# Altium integrated library harwin.IntLib: 8 symbols
Pins are listed as number, name and electrical type; pins without a type are passive.

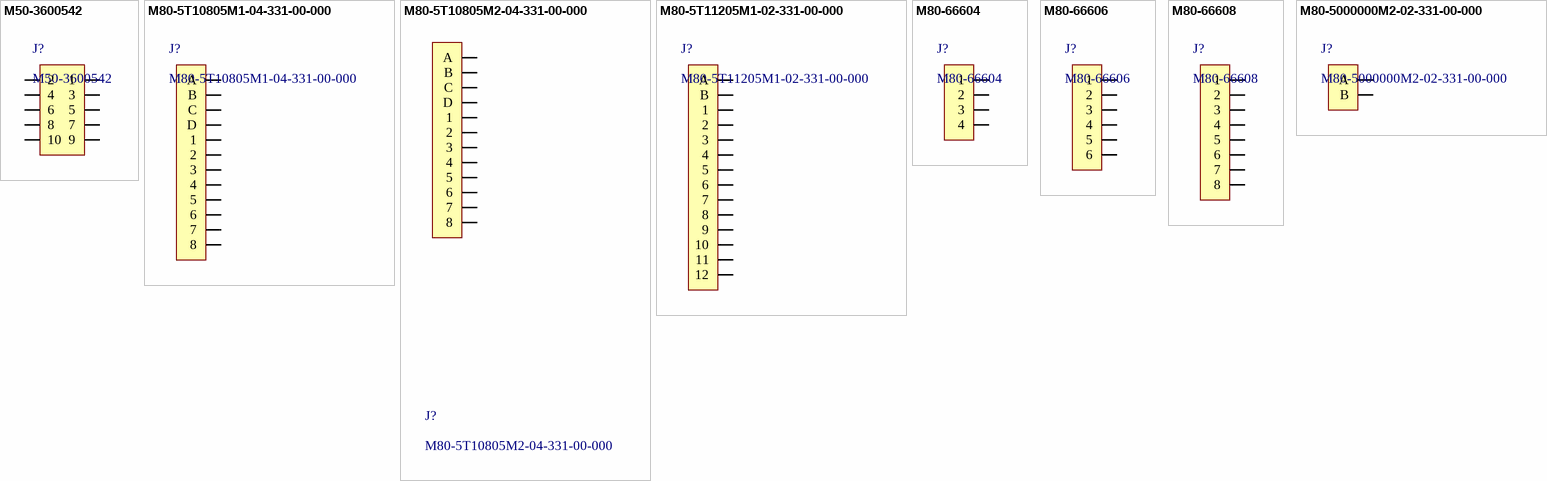
[diagram p0: symbols M50-3600542 to M80-5000000M2-02-331-00-000]

## M50-3600542
designator J?
footprint M50-3600542 (Header, 0.05", 2x10, SMT)
pins: 1, 2, 3, 4, 5, 6, 7, 8, 9, 10

## M80-5T10805M1-04-331-00-000
designator J?
Harwin, 4 Power, 8 Signal, Jackscrew Only
footprint M80-5T10805M1-04-331-00-000 (DataMate Connector)
pins: 1, 2, 3, 4, 5, 6, 7, 8, A, B, C, D

## M80-5T10805M2-04-331-00-000
designator J?
Harwin, 4 Power, 8 Signal, Jackscrew With Board Mount
footprint M80-5T10805M2-04-331-00-000 (DataMate Connector)
pins: 1, 2, 3, 4, 5, 6, 7, 8, A, B, C, D

## M80-5T11205M1-02-331-00-000
designator J?
Harwin, 2 Power, 12 Signal
footprint M80-5T11205M1-02-331-00-000 (DataMate Connector)
pins: 1, 2, 3, 4, 5, 6, 7, 8, 9, 10, 11, 12, A, B

## M80-66604
designator J?
Harwin, No Power, 4 Signal, Male Horizontal Surface Mount
footprint M80-66604 (Header, 0.05", 2x3, SMT)
pins: 1, 2, 3, 4

## M80-66606
designator J?
Harwin, No Power, 6 Signal, Male Horizontal Surface Mount
footprint M80-66606 (Header, 0.05", 2x3, SMT)
pins: 1, 2, 3, 4, 5, 6

## M80-66608
designator J?
Harwin, No Power, 8 Signal, Male Horizontal Surface Mount
footprint M80-66608 (Header, 0.05", 2x10, SMT)
pins: 1, 2, 3, 4, 5, 6, 7, 8

## M80-5000000M2-02-331-00-000
designator J?
Harwin, 2 Power, No Signal
footprint M80-5000000M2-02-331-00-000 (DataMate Connector)
pins: A, B